# EAGLE library part 503480-2400 (library ZIFF)
FFC & FPC Connectors 0.5mm FPC RA SMT Dual Contact 24Ckt Source: Datasheet <https://componentsearchengine.com/Datasheets/1/503480-2400.pdf>
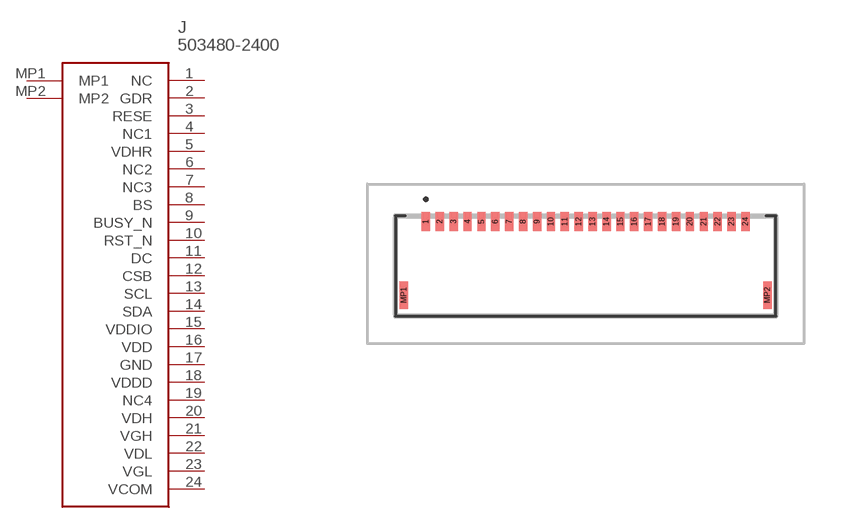
[diagram p0: symbol with the pads of 5034802400; footprint 5034802400]

Designator prefix J

## 503480-2400 (DESCRIPTION: FFC & FPC Connectors 0.5mm FPC RA SMT Dual Contact 24Ckt; HEIGHT: 1.87mm; MANUFACTURER_NAME: Molex; MANUFACTURER_PART_NUMBER: 503480-2400; MOUSER_PART_NUMBER: 538-503480-2400; MOUSER_PRICE-STOCK: https://www.mouser.co.uk/ProductDetail/Molex/503480-2400?qs=OAhjpuo3Vu7efIoxFh9AOw%3D%3D)  [5034802400]
1  NC
2  GDR
3  RESE
4  NC1
5  VDHR
6  NC2
7  NC3
8  BS
9  BUSY_N
10  RST_N
11  DC
12  CSB
13  SCL
14  SDA
15  VDDIO
16  VDD
17  GND
18  VDDD
19  NC4
20  VDH
21  VGH
22  VDL
23  VGL
24  VCOM
MP1  MP1
MP2  MP2

## Footprint 5034802400 (pad centres in mm)
503480-2400-2
smd 0.3 x 0.7: 1 -5.75,1.525; 2 -5.25,1.525; 3 -4.75,1.525; 4 -4.25,1.525; 5 -3.75,1.525; 6 -3.25,1.525; 7 -2.75,1.525; 8 -2.25,1.525; 9 -1.75,1.525; 10 -1.25,1.525; 11 -0.75,1.525; 12 -0.25,1.525; 13 0.25,1.525; 14 0.75,1.525; 15 1.25,1.525; 16 1.75,1.525; 17 2.25,1.525; 18 2.75,1.525; 19 3.25,1.525; 20 3.75,1.525; 21 4.25,1.525; 22 4.75,1.525; 23 5.25,1.525; 24 5.75,1.525
smd 0.3 x 1: MP1 -6.54,-1.125; MP2 6.54,-1.125